# EAGLE library part SN74LVC2G14 (library texas-instruments)
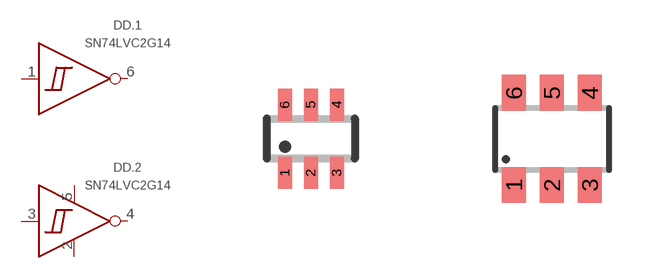
[diagram p11: symbol with the pads of SC70-6L; footprints SC70-6L, SOT23-6]

Designator prefix DD; gates .1=SN74LVC2G14 .2=SN74LVC2G14 G$1=SN74LVC2G14_PWR

## SN74LVC2G14DCK  [SC70-6L]
1  .1:IN  in
2  G$1:GND
3  .2:IN  in
4  .2:OUT  out
5  G$1:VCC  pwr
6  .1:OUT  out

## SN74LVC2G14DBV  [SOT23-6]
Pads as for SC70-6L

## Footprint SC70-6L (pad centres in mm)
SC-70 Package
smd 0.35 x 0.8: 1 -0.65,-0.85; 2 0,-0.85; 3 0.65,-0.85; 4 0.65,0.85; 5 0,0.85; 6 -0.65,0.85

## Footprint SOT23-6 (pad centres in mm)
Small Outline Transistor 6 lead
smd 0.6 x 0.9: 1 -0.95,-1.15; 2 0,-1.15; 3 0.95,-1.15; 4 0.95,1.15; 5 0,1.15; 6 -0.95,1.15